# EAGLE library part 61001618321 (library Wuerth_Elektronik_eiCan_Pin_&_Socked_Headers_v1.3)
WR-PHD 2.54mm SMT Pin Header, 16 Pins
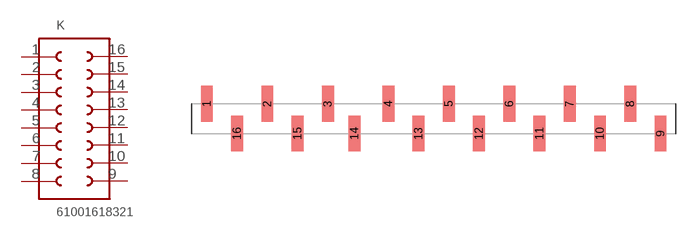
[diagram p85: symbol with the pads of 61001618321; footprint 61001618321]

Designator prefix K

## 61001618321  [61001618321]
1  1  pas
2  2  pas
3  3  pas
4  4  pas
5  5  pas
6  6  pas
7  7  pas
8  8  pas
9  9  pas
10  10  pas
11  11  pas
12  12  pas
13  13  pas
14  14  pas
15  15  pas
16  16  pas

## Footprint 61001618321 (pad centres in mm)
WR-PHD 2.54mm SMT Pin Header, 16 Pins
smd 1 x 3: 1 -19.05,1.25; 2 -13.97,1.25; 3 -8.89,1.25; 4 -3.81,1.25; 5 1.27,1.25; 6 6.35,1.25; 7 11.43,1.25; 8 16.51,1.25; 9 19.05,-1.25; 10 13.97,-1.25; 11 8.89,-1.25; 12 3.81,-1.25; 13 -1.27,-1.25; 14 -6.65,-1.25; 15 -11.43,-1.25; 16 -16.51,-1.25